# Altium integrated library PIC16F73-I_SS.IntLib: 1 symbol
Pins are listed as number, name and electrical type; pins without a type are passive.

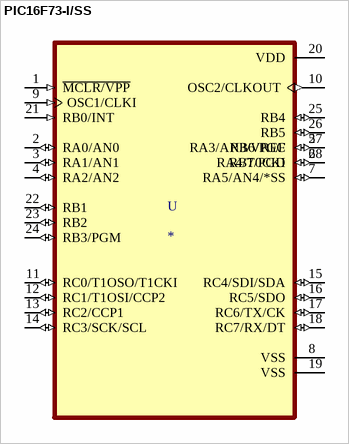
[diagram p0: symbol PIC16F73-I/SS]

## PIC16F73-I/SS
designator U
PIC PICÂ® 16F Microcontroller IC 8-Bit 20MHz 7KB (4K x 14) FLASH 28-SSOP; MF: Microchip; MP: PIC16F73-I/SS; Availability: Unavailable; SnapEDA_Link: https://www.snapeda.com/parts/PIC16F73-I/SS/Microchip/view-part/12069/?ref=snap; Package: SSOP-28 Microchip; DigiKey-Purchase-URL: https://snapeda.com/shop?store=DigiKey&id=12069; Value: *; Price: None
footprint SOP65P780X200-28N
pins: 1 ~{MCLR/VPP} (in), 2 RA0/AN0 (io), 3 RA1/AN1 (io), 4 RA2/AN2 (io), 5 RA3/AN3/VREF (io), 6 RA4/T0CKI (io), 7 RA5/AN4/*SS (io), 8 VSS (power), 9 OSC1/CLKI (in), 10 OSC2/CLKOUT (out), 11 RC0/T1OSO/T1CKI (io), 12 RC1/T1OSI/CCP2 (io), 13 RC2/CCP1 (io), 14 RC3/SCK/SCL (io), 15 RC4/SDI/SDA (io), 16 RC5/SDO (io), 17 RC6/TX/CK (io), 18 RC7/RX/DT (io), 19 VSS (power), 20 VDD (power), 21 RB0/INT (in), 22 RB1 (io), 23 RB2 (io), 24 RB3/PGM (io), 25 RB4 (io), 26 RB5 (io), 27 RB6/PGC (io), 28 RB7/PGD (io)